# Altium footprint library Screw_2.0_N.PcbLib: 1 footprints
Each footprint in its own frame and in the unit in brackets; x right, y up, seen from the top. Pads: shape width x height; smd on the part's side, far side on the other; paste and mask are expansions set on the pad; w line width, h text height; cw(c..) or ccw(c..) is an arc to the next point about the centre after c.
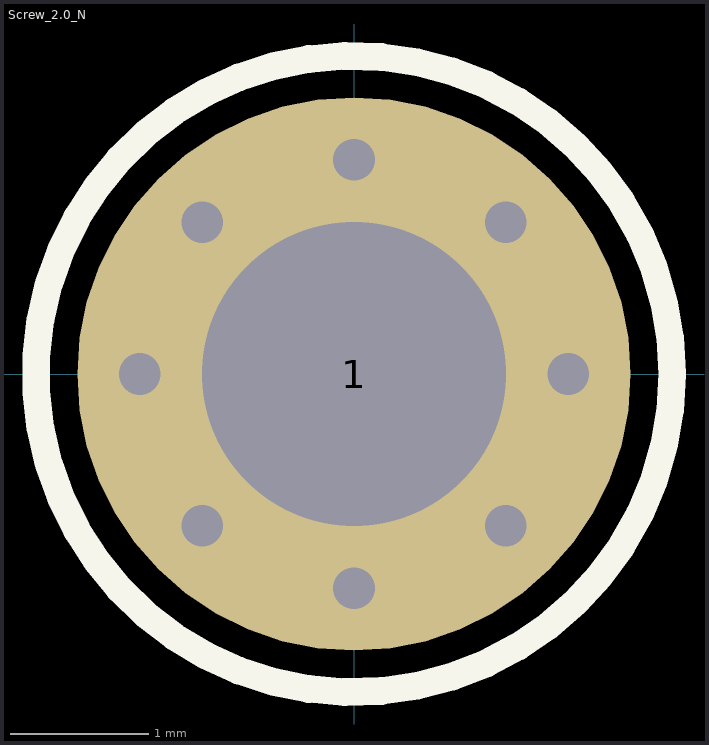
[diagram p0: the footprint, top view; thin cyan lines are the x and y axes]

## Screw_2.0_N [mm]
pads (1):
  round 4 hole 2.2 unplated: 1(0,0)
via -1.096,1.096 diameter 0.5 hole 0.3
via 0,1.55 diameter 0.5 hole 0.3
via 1.096,1.096 diameter 0.5 hole 0.3
via 1.55,0 diameter 0.5 hole 0.3
via 1.096,-1.096 diameter 0.5 hole 0.3
via 0,-1.55 diameter 0.5 hole 0.3
via -1.096,-1.096 diameter 0.5 hole 0.3
via -1.55,0 diameter 0.5 hole 0.3
Top Overlay:
  circle w0.2: c0,0 r2.3
Bottom Overlay:
  circle w0.2: c0,0 r2.3
3D body: height 1, standoff -1, extent -1,-1 1,1